# Altium footprint library Components.PcbLib: 29 footprints (part 2 of 2)
Each footprint in its own frame and in the unit in brackets; x right, y up, seen from the top. Pads: shape width x height; smd on the part's side, far side on the other; paste and mask are expansions set on the pad; w line width, h text height; cw(c..) or ccw(c..) is an arc to the next point about the centre after c.
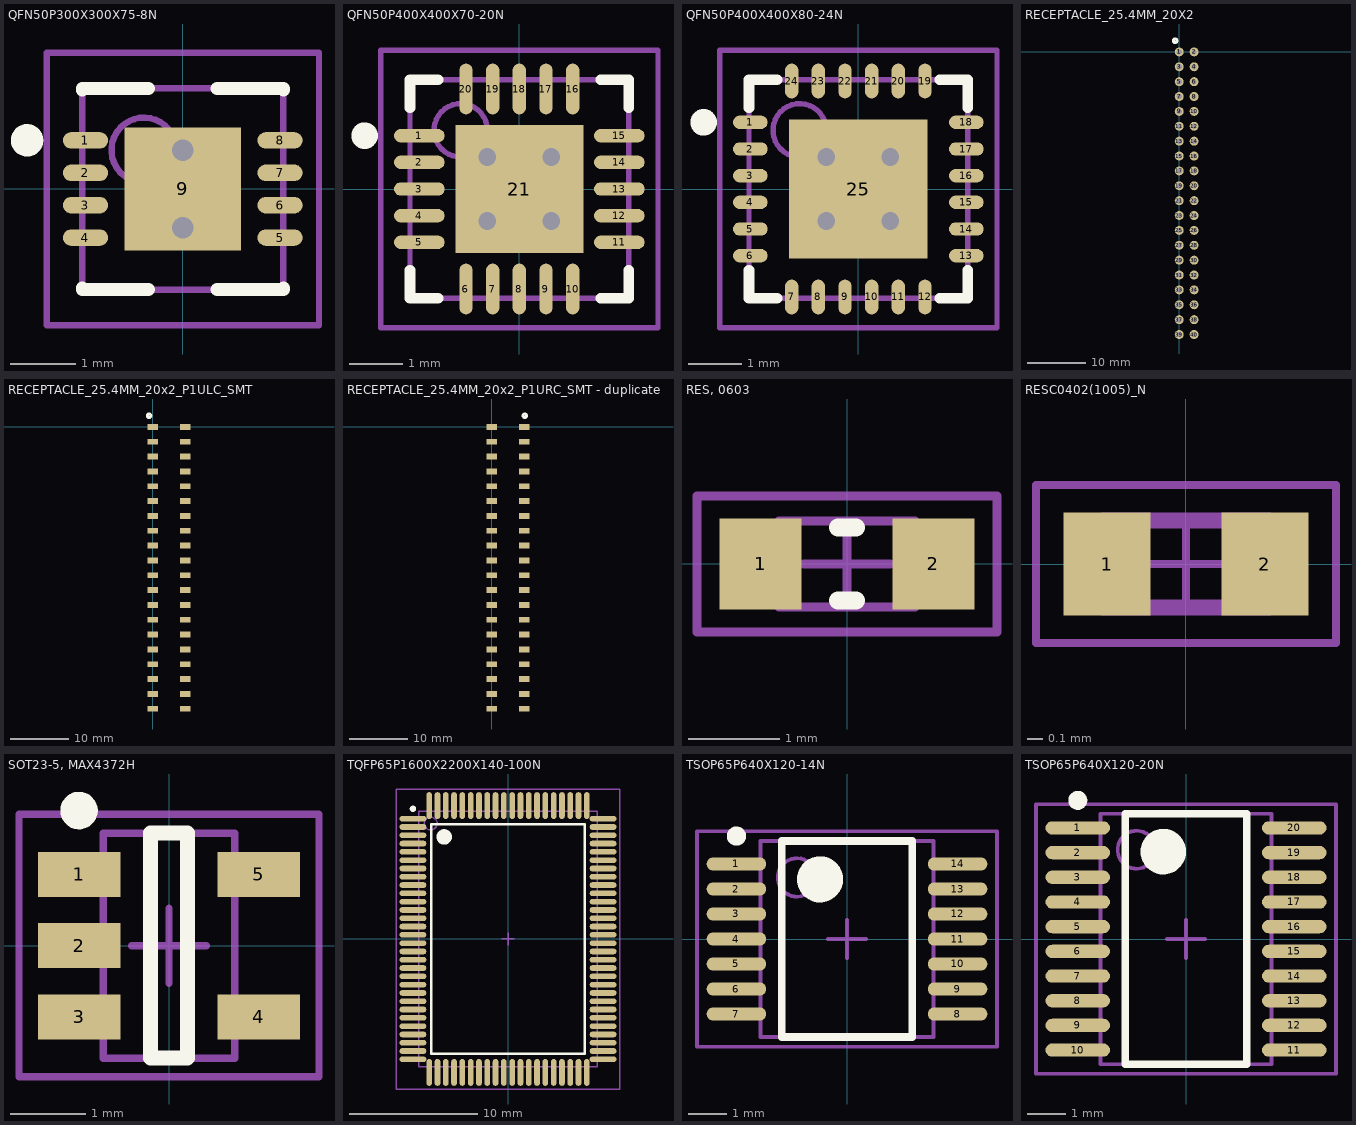
[diagram p1: the footprints below, top view; thin cyan lines are the x and y axes]

## QFN50P300X300X75-8N [mm] "QFN, 8-Leads, Body 3.1x3.1mm (max), Pitch 0.50mm, IPC Medium Density"
height 0.75
pads (9):
  oval 0.7x0.25 smd: 1(-1.5,0.75) 2(-1.5,0.25) 3(-1.5,-0.25) 4(-1.5,-0.75) 5(1.5,-0.75) 6(1.5,-0.25) 7(1.5,0.25) 8(1.5,0.75)
  rect 1.8x1.9 smd: 9(0,0)
via 0,-0.6 diameter 0.66 hole 0.33
via 0,0.6 diameter 0.66 hole 0.33
Top Overlay:
  circle w0.25: c-2.4,0.75 r0.125
  lines w0.2: -1.55,-1.525 -1.55,-1.55 -0.525,-1.55 ; -1.55,1.525 -1.55,1.55 -0.525,1.55 ; 0.525,-1.55 1.55,-1.55 1.55,-1.525 ; 0.525,1.55 1.55,1.55 1.55,1.525
Mechanical 13:
  circle w0.1: c-0.6,0.6 r0.5
  lines w0.1: -1.55,-1.55 1.55,-1.55 1.55,1.55 -1.55,1.55 -1.55,-1.55
Mechanical 15:
  lines w0.1: -0.5,0 0.5,0 ; 0,-0.5 0,0.5 ; -2.1,-2.1 2.1,-2.1 2.1,2.1 -2.1,2.1 -2.1,-2.1
3D body: height 0.75, standoff 0.02, extent -1.55,-1.55 1.55,1.55

## QFN50P400X400X70-20N [mm] "QFN, 20-Leads, Body 4.1x4.1mm (max), Pitch 0.50mm, IPC Medium Density"
height 0.7
pads (21):
  oval 0.95x0.25 smd: 1(-1.875,1) 2(-1.875,0.5) 3(-1.875,0) 4(-1.875,-0.5) 5(-1.875,-1) 11(1.875,-1) 12(1.875,-0.5) 13(1.875,0) 14(1.875,0.5) 15(1.875,1)
  oval 0.25x0.95 smd: 6(-1,-1.875) 7(-0.5,-1.875) 8(0,-1.875) 9(0.5,-1.875) 10(1,-1.875) 16(1,1.875) 17(0.5,1.875) 18(0,1.875) 19(-0.5,1.875) 20(-1,1.875)
  rect 2.4x2.4 smd: 21(0,0)
via 0.6,-0.6 diameter 0.66 hole 0.33
via -0.6,-0.6 diameter 0.66 hole 0.33
via 0.6,0.6 diameter 0.66 hole 0.33
via -0.6,0.6 diameter 0.66 hole 0.33
Top Overlay:
  circle w0.25: c-2.9,1 r0.125
  lines w0.2: -2.05,-1.525 -2.05,-2.05 -1.525,-2.05 ; -2.05,1.525 -2.05,2.05 -1.525,2.05 ; 1.525,-2.05 2.05,-2.05 2.05,-1.525 ; 1.525,2.05 2.05,2.05 2.05,1.525
Mechanical 13:
  circle w0.1: c-1.1,1.1 r0.5
  lines w0.1: -2.05,-2.05 2.05,-2.05 2.05,2.05 -2.05,2.05 -2.05,-2.05
Mechanical 15:
  lines w0.1: -0.5,0 0.5,0 ; 0,-0.5 0,0.5 ; -2.6,-2.6 2.6,-2.6 2.6,2.6 -2.6,2.6 -2.6,-2.6
3D body: height 0.8, standoff 0.7, extent -2.05,-2.05 2.05,2.05

## QFN50P400X400X80-24N [mm] "QFN, 24-Leads, Body 4.1x4.1mm (max), Pitch 0.50mm, IPC Medium Density"
height 0.8
pads (25):
  oval 0.65x0.25 smd: 1(-2.025,1.25) 2(-2.025,0.75) 3(-2.025,0.25) 4(-2.025,-0.25) 5(-2.025,-0.75) 6(-2.025,-1.25) 13(2.025,-1.25) 14(2.025,-0.75) 15(2.025,-0.25) 16(2.025,0.25) 17(2.025,0.75) 18(2.025,1.25)
  oval 0.25x0.65 smd: 7(-1.25,-2.025) 8(-0.75,-2.025) 9(-0.25,-2.025) 10(0.25,-2.025) 11(0.75,-2.025) 12(1.25,-2.025) 19(1.25,2.025) 20(0.75,2.025) 21(0.25,2.025) 22(-0.25,2.025) 23(-0.75,2.025) 24(-1.25,2.025)
  rect 2.6x2.6 smd: 25(0,0)
via 0.6,-0.6 diameter 0.66 hole 0.33
via -0.6,-0.6 diameter 0.66 hole 0.33
via 0.6,0.6 diameter 0.66 hole 0.33
via -0.6,0.6 diameter 0.66 hole 0.33
Top Overlay:
  circle w0.25: c-2.9,1.25 r0.125
  lines w0.2: -2.05,-1.525 -2.05,-2.05 -1.525,-2.05 ; -2.05,1.525 -2.05,2.05 -1.525,2.05 ; 1.525,-2.05 2.05,-2.05 2.05,-1.525 ; 1.525,2.05 2.05,2.05 2.05,1.525
Mechanical 13:
  circle w0.1: c-1.1,1.1 r0.5
  lines w0.1: -2.05,-2.05 2.05,-2.05 2.05,2.05 -2.05,2.05 -2.05,-2.05
Mechanical 15:
  lines w0.1: -0.5,0 0.5,0 ; 0,-0.5 0,0.5 ; -2.6,-2.6 2.6,-2.6 2.6,2.6 -2.6,2.6 -2.6,-2.6
3D body: height 0.8, standoff 0.05, extent -2.05,-2.05 2.05,2.05

## RECEPTACLE_25.4MM_20X2 [mil]
height 320.08
pads (40):
  round 60 hole 35: 1(0,0) 2(100,0) 3(0,-100) 4(100,-100) 5(0,-200) 6(100,-200) 7(0,-300) 8(100,-300) 9(0,-400) 10(100,-400) 11(0,-500) 12(100,-500) 13(0,-600) 14(100,-600) 15(0,-700) 16(100,-700) 17(0,-800) 18(100,-800) 19(0,-900) 20(100,-900) 21(0,-1000) 22(100,-1000) 23(0,-1100) 24(100,-1100) 25(0,-1200) 26(100,-1200) 27(0,-1300) 28(100,-1300) 29(0,-1400) 30(100,-1400) 31(0,-1500) 32(100,-1500) 33(0,-1600) 34(100,-1600) 35(0,-1700) 36(100,-1700) 37(0,-1800) 38(100,-1800) 39(0,-1900) 40(100,-1900)
Top Overlay:
  circle w21.65: c-26.81,75 r11.81
3D body: height 320, standoff -135, extent -48.99,-1950.01 149,49.99

## RECEPTACLE_25.4MM_20x2_P1ULC_SMT [mm] "3M 966 Series 20x2 through board SMIT receptacle"
height 6.25
pads (40):
  rect 1.82x1 smd: 1(0,0) 2(5.588,0) 3(0,-2.54) 4(5.588,-2.54) 5(0,-5.08) 6(5.588,-5.08) 7(0,-7.62) 8(5.588,-7.62) 9(0,-10.16) 10(5.588,-10.16) 11(0,-12.7) 12(5.588,-12.7) 13(0,-15.24) 14(5.588,-15.24) 15(0,-17.78) 16(5.588,-17.78) 17(0,-20.32) 18(5.588,-20.32) 19(0,-22.86) 20(5.588,-22.86) 21(0,-25.4) 22(5.588,-25.4) 23(0,-27.94) 24(5.588,-27.94) 25(0,-30.48) 26(5.588,-30.48) 27(0,-33.02) 28(5.588,-33.02) 29(0,-35.56) 30(5.588,-35.56) 31(0,-38.1) 32(5.588,-38.1) 33(0,-40.64) 34(5.588,-40.64) 35(0,-43.18) 36(5.588,-43.18) 37(0,-45.72) 38(5.588,-45.72) 39(0,-48.26) 40(5.588,-48.26)
Top Overlay:
  circle w0.5: c-0.635,1.905 r0.3
  text ".Designator" at 4.445,1.905 h1.02
3D body: height 5.01, standoff 0.01, extent -0.477,-49.53 6.223,1.27

## RECEPTACLE_25.4MM_20x2_P1URC_SMT - duplicate [mm] "3M 966 Series 20x2 through board SMIT receptacle"
height 6.25
pads (40):
  rect 1.82x1 smd: 1(5.588,0) 2(0,0) 3(5.588,-2.54) 4(0,-2.54) 5(5.588,-5.08) 6(0,-5.08) 7(5.588,-7.62) 8(0,-7.62) 9(5.588,-10.16) 10(0,-10.16) 11(5.588,-12.7) 12(0,-12.7) 13(5.588,-15.24) 14(0,-15.24) 15(5.588,-17.78) 16(0,-17.78) 17(5.588,-20.32) 18(0,-20.32) 19(5.588,-22.86) 20(0,-22.86) 21(5.588,-25.4) 22(0,-25.4) 23(5.588,-27.94) 24(0,-27.94) 25(5.588,-30.48) 26(0,-30.48) 27(5.588,-33.02) 28(0,-33.02) 29(5.588,-35.56) 30(0,-35.56) 31(5.588,-38.1) 32(0,-38.1) 33(5.588,-40.64) 34(0,-40.64) 35(5.588,-43.18) 36(0,-43.18) 37(5.588,-45.72) 38(0,-45.72) 39(5.588,-48.26) 40(0,-48.26)
Top Overlay:
  circle w0.5: c5.669,1.905 r0.3
  text ".Designator" at -0.889,1.905 h1.02
3D body: height 5.01, standoff 0.01, extent -0.477,-49.53 6.223,1.27

## RES, 0603 [mm] "Chip Resistor, 2-Leads, Body 1.6x0.8mm, IPC Medium Density"
height 0.55
pads (2):
  rect 0.9x1 smd: 1(-0.95,0) 2(0.95,0)
Top Overlay:
  lines w0.2: -0.1,-0.4 0.1,-0.4 ; -0.1,0.4 0.1,0.4
Mechanical 13:
  lines w0.1: -0.75,-0.475 -0.75,0.475 0.75,0.475 0.75,-0.475 -0.75,-0.475
Mechanical 15:
  lines w0.1: -0.475,0 0.475,0 ; 0,-0.475 0,0.475 ; -1.65,-0.75 -1.65,0.75 1.65,0.75 1.65,-0.75 -1.65,-0.75
3D body: height 0.45, standoff 0, extent -0.775,-0.425 0.775,0.425

## RESC0402(1005)_N [mm] "Chip Resistor, Body 1.0x0.5mm, IPC Medium Density"
height 0.4
pads (2):
  rect 0.55x0.65 smd: 1(-0.5,0) 2(0.5,0)
Mechanical 13:
  lines w0.1: -0.525,-0.275 0.525,-0.275 0.525,0.275 -0.525,0.275 -0.525,-0.275
Mechanical 15:
  lines w0.05: -0.275,0 0.275,0 ; 0,-0.275 0,0.275 ; -0.95,-0.5 0.95,-0.5 0.95,0.5 -0.95,0.5 -0.95,-0.5
3D body: height 0.4, standoff 0, extent -0.525,-0.275 -0.3,0.275
3D body: height 0.4, standoff 0, extent -0.3,-0.275 0.3,0.275
3D body: height 0.4, standoff 0, extent 0.3,-0.275 0.525,0.275

## SOT23-5, MAX4372H [mm]
pads (5):
  rect 1.1x0.6 smd mask+0.064: 1(-1.2,0.95) 2(-1.2,0) 3(-1.2,-0.95) 4(1.2,-0.95) 5(1.2,0.95)
Top Overlay:
  circle w0.25: c-1.2,1.8 r0.125
  lines w0.2: -0.25,-1.5 -0.25,1.5 0.25,1.5 0.25,-1.5 -0.25,-1.5
Mechanical 13:
  lines w0.1: -0.875,-1.5 0.875,-1.5 0.875,1.5 -0.875,1.5 -0.875,-1.5
Mechanical 15:
  lines w0.1: -0.5,0 0.5,0 ; 0,-0.5 0,0.5 ; -2,-1.75 2,-1.75 2,1.75 -2,1.75 -2,-1.75
3D body: height 1.3, standoff 0, extent -0.875,-1.5 0.875,1.5

## TQFP65P1600X2200X140-100N [mm] "TQFP, 100-Leads, Body 22.2x16.2mm (max), Pitch 0.65mm, IPC Medium Density"
height 1.4
pads (100):
  oval 2.1x0.45 smd: 1(-7.45,9.425) 2(-7.45,8.775) 3(-7.45,8.125) 4(-7.45,7.475) 5(-7.45,6.825) 6(-7.45,6.175) 7(-7.45,5.525) 8(-7.45,4.875) 9(-7.45,4.225) 10(-7.45,3.575) 11(-7.45,2.925) 12(-7.45,2.275) 13(-7.45,1.625) 14(-7.45,0.975) 15(-7.45,0.325) 16(-7.45,-0.325) 17(-7.45,-0.975) 18(-7.45,-1.625) 19(-7.45,-2.275) 20(-7.45,-2.925) 21(-7.45,-3.575) 22(-7.45,-4.225) 23(-7.45,-4.875) 24(-7.45,-5.525) 25(-7.45,-6.175) 26(-7.45,-6.825) 27(-7.45,-7.475) 28(-7.45,-8.125) 29(-7.45,-8.775) 30(-7.45,-9.425) 51(7.45,-9.425) 52(7.45,-8.775) 53(7.45,-8.125) 54(7.45,-7.475) 55(7.45,-6.825) 56(7.45,-6.175) 57(7.45,-5.525) 58(7.45,-4.875) 59(7.45,-4.225) 60(7.45,-3.575) 61(7.45,-2.925) 62(7.45,-2.275) 63(7.45,-1.625) 64(7.45,-0.975) 65(7.45,-0.325) 66(7.45,0.325) 67(7.45,0.975) 68(7.45,1.625) 69(7.45,2.275) 70(7.45,2.925) 71(7.45,3.575) 72(7.45,4.225) 73(7.45,4.875) 74(7.45,5.525) 75(7.45,6.175) 76(7.45,6.825) 77(7.45,7.475) 78(7.45,8.125) 79(7.45,8.775) 80(7.45,9.425)
  oval 0.45x2.1 smd: 31(-6.175,-10.45) 32(-5.525,-10.45) 33(-4.875,-10.45) 34(-4.225,-10.45) 35(-3.575,-10.45) 36(-2.925,-10.45) 37(-2.275,-10.45) 38(-1.625,-10.45) 39(-0.975,-10.45) 40(-0.325,-10.45) 41(0.325,-10.45) 42(0.975,-10.45) 43(1.625,-10.45) 44(2.275,-10.45) 45(2.925,-10.45) 46(3.575,-10.45) 47(4.225,-10.45) 48(4.875,-10.45) 49(5.525,-10.45) 50(6.175,-10.45) 81(6.175,10.45) 82(5.525,10.45) 83(4.875,10.45) 84(4.225,10.45) 85(3.575,10.45) 86(2.925,10.45) 87(2.275,10.45) 88(1.625,10.45) 89(0.975,10.45) 90(0.325,10.45) 91(-0.325,10.45) 92(-0.975,10.45) 93(-1.625,10.45) 94(-2.275,10.45) 95(-2.925,10.45) 96(-3.575,10.45) 97(-4.225,10.45) 98(-4.875,10.45) 99(-5.525,10.45) 100(-6.175,10.45)
Top Overlay:
  circle w0.25: c-7.45,10.2 r0.125
  circle w0.6: c-5,8 r0.3
  lines w0.2: -6,-9 -6,9 6,9 6,-9 -6,-9
Mechanical 13:
  circle w0.1: c-6.05,9.05 r0.5
  lines w0.1: -7,-10 -7,10 7,10 7,-10 -7,-10
Mechanical 15:
  lines w0.1: -0.5,0 0.5,0 ; 0,-0.5 0,0.5 ; -8.75,-11.75 -8.75,11.75 8.75,11.75 8.75,-11.75 -8.75,-11.75
3D body: height 1.4, standoff 0.05, extent -7,-10 7,10

## TQFP100 [mm]
height 1.4

## TSOP65P640X120-14N [mm] "TSOP, 14-Leads, Body 5.1x4.5mm (max), Pitch 0.65mm, IPC Medium Density"
height 1.2
pads (14):
  oval 1.55x0.35 smd: 1(-2.875,1.95) 2(-2.875,1.3) 3(-2.875,0.65) 4(-2.875,0) 5(-2.875,-0.65) 6(-2.875,-1.3) 7(-2.875,-1.95) 8(2.875,-1.95) 9(2.875,-1.3) 10(2.875,-0.65) 11(2.875,0) 12(2.875,0.65) 13(2.875,1.3) 14(2.875,1.95)
Top Overlay:
  circle w0.25: c-2.875,2.675 r0.125
  circle w0.6: c-0.7,1.55 r0.3
  lines w0.2: -1.7,-2.55 -1.7,2.55 1.7,2.55 1.7,-2.55 -1.7,-2.55
Mechanical 13:
  circle w0.1: c-1.3,1.6 r0.5
  lines w0.1: -2.25,-2.55 -2.25,2.55 2.25,2.55 2.25,-2.55 -2.25,-2.55
Mechanical 15:
  lines w0.1: -0.5,0 0.5,0 ; 0,-0.5 0,0.5 ; -3.9,-2.8 -3.9,2.8 3.9,2.8 3.9,-2.8 -3.9,-2.8
3D body: height 1.2, standoff 0.2, extent -2.25,-2.55 2.25,2.55

## TSOP65P640X120-20N [mm] "TSOP, 20-Leads, Body 6.6x4.5mm (max), Pitch 0.65mm, IPC Medium Density"
height 1.2
pads (20):
  oval 1.7x0.35 smd: 1(-2.85,2.925) 2(-2.85,2.275) 3(-2.85,1.625) 4(-2.85,0.975) 5(-2.85,0.325) 6(-2.85,-0.325) 7(-2.85,-0.975) 8(-2.85,-1.625) 9(-2.85,-2.275) 10(-2.85,-2.925) 11(2.85,-2.925) 12(2.85,-2.275) 13(2.85,-1.625) 14(2.85,-0.975) 15(2.85,-0.325) 16(2.85,0.325) 17(2.85,0.975) 18(2.85,1.625) 19(2.85,2.275) 20(2.85,2.925)
Top Overlay:
  circle w0.6: c-0.6,2.3 r0.3
  circle w0.25: c-2.85,3.65 r0.125
  lines w0.2: -1.6,-3.3 1.6,-3.3 1.6,3.3 -1.6,3.3 -1.6,-3.3
Mechanical 13:
  circle w0.1: c-1.3,2.35 r0.5
  lines w0.1: -2.25,-3.3 2.25,-3.3 2.25,3.3 -2.25,3.3 -2.25,-3.3
Mechanical 15:
  lines w0.1: -0.5,0 0.5,0 ; 0,-0.5 0,0.5 ; -3.95,-3.55 3.95,-3.55 3.95,3.55 -3.95,3.55 -3.95,-3.55
3D body: height 1.2, standoff 0.25, extent -2.25,-3.3 2.25,3.3